# Altium schematic symbol library TRACKER.SchLib: 15 symbols
Pins are listed as number, name and electrical type; pins without a type are passive.

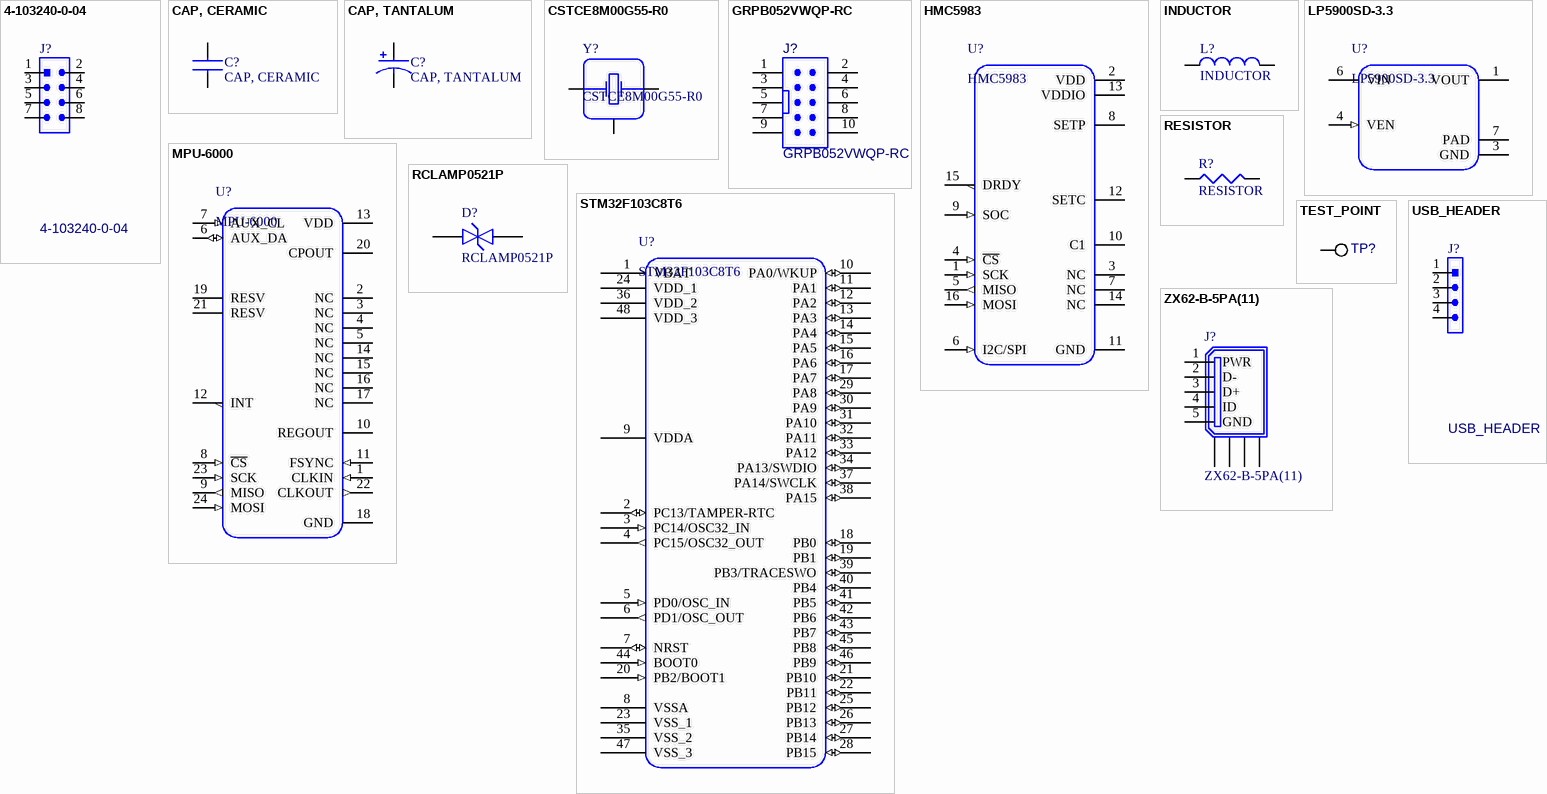
[diagram p0: symbols 4-103240-0-04 to ZX62-B-5PA(11)]

## 4-103240-0-04
designator J?
CONNECTOR, HEADER, 2X4, 0.1" PITCH; Manufacturer: TE CONNECTIVITY; Part Number: 4-103240-0-04; Pitch: 0.1"
footprint 4-103240-0-04 (Footprint not found)
pins: 1, 2, 3, 4, 5, 6, 7, 8

## CAP, CERAMIC
designator C?
CAPACITOR, CERAMIC; Manufacturer: *; Part Number: *; Package: *; Tolerance: *; Dielectric: *; Voltage: *
pins: 1, 2

## CAP, TANTALUM
designator C?
CAPACITOR, TANTALUM; Manufacturer: *; Part Number: *; Package: *; Tolerance: *; Dielectric: *; Voltage: *
pins: 1, 2

## CSTCE8M00G55-R0
designator Y?
CERAMIC RESONATOR, 8MHz, +/-0.2%, 33pF, SMD; Manufacturer: MURATA ELECTRONICS; Part Number: CSTCE8M00G55-R0; Pinout Verified: *
footprint CSTCE (Footprint not found)
pins: 1, 2 GND (power), 3

## GRPB052VWQP-RC
designator J?
CONNECTOR, 10 POS, ARM CORTEX SWD HEADER; Manufacturer: SULLINS CONNECTOR; Part Number: GRPB052VWQP-RC
footprint GRPB052VWQP-RC (Footprint not found)
pins: 1, 2, 3, 4, 5, 6, 7, 8, 9, 10

## HMC5983
designator U?
IC, MEMS 3 AXIS MAGNETOMETER; Manufacturer: HONEYWELL; Part Number: HMC5983-TR; Verified Pinout: *; Updated: *
footprint LPCC-16 (Footprint not found)
pins: 1 SCK (in), 2 VDD (power), 3 NC, 4 ~{CS} (in), 5 MISO (out), 6 I2C/SPI (in), 7 NC, 8 SETP, 9 SOC (in), 10 C1, 11 GND (power), 12 SETC, 13 VDDIO (power), 14 NC, 15 DRDY, 16 MOSI (in)

## INDUCTOR
designator L?
Manufacturer: *; Part Number: *; Tolerance: *; Package: *
pins: 1, 2

## LP5900SD-3.3
designator U?
IC, LINEAR REGULATOR, 3.3V, 150MA, ULTRA LOW NOISE; Manufacturer: NATIONAL SEMICONDUCTOR; Part Number: LP5900SD-3.3/NOPB; Pinout verified: *
footprint LLP-6
pins: 1 VOUT (power), 3 GND (power), 4 VEN (in), 6 VIN (power), 7 PAD (power)

## MPU-6000
designator U?
IC, MEMS 3 AXIS GYROSCOPE AND 3 AXIS ACCELEROMETER; Manufacturer: INVENSENSE; Part Number: MPU-6000; Verified Pinout: *; Updated: *
footprint QFN-24
pins: 1 CLKIN (in), 2 NC, 3 NC, 4 NC, 5 NC, 6 AUX_DA (io), 7 AUX_CL (in), 8 ~{CS} (in), 9 MISO (out), 10 REGOUT (power), 11 FSYNC (in), 12 INT, 13 VDD (power), 14 NC, 15 NC, 16 NC, 17 NC, 18 GND (power), 19 RESV, 20 CPOUT, 21 RESV, 22 CLKOUT (out), 23 SCK (in), 24 MOSI (in)

## RCLAMP0521P
designator D?
DIODE, ESD SUPPRESSOR, SINGLE LINE, ULTRA LOW CAPACITANCE; Manufacturer: SEMTECH; Part Number: RCLAMP0521P
footprint RCLAMP0521P (Footprint not found)
pins: 1, 2

## RESISTOR
designator R?
Manufacturer: *; Part Number: *; Tolerance: *; Package: *
pins: 1, 2

## STM32F103C8T6
designator U?
IC, STM32 MICROCONTROLLER, ARM CORTEX M3; Manufacturer: ST MICROELECTRONICS; Part Number: STM32F103C8T6; Verified Pinout: *
footprint LQFP48 (Footprint not found)
pins: 1 VBAT (power), 2 PC13/TAMPER-RTC (io), 3 PC14/OSC32_IN (in), 4 PC15/OSC32_OUT (out), 5 PD0/OSC_IN (in), 6 PD1/OSC_OUT (out), 7 NRST (io), 8 VSSA (power), 9 VDDA (power), 10 PA0/WKUP (io), 11 PA1 (io), 12 PA2 (io), 13 PA3 (io), 14 PA4 (io), 15 PA5 (io), 16 PA6 (io), 17 PA7 (io), 18 PB0 (io), 19 PB1 (io), 20 PB2/BOOT1 (in), 21 PB10 (io), 22 PB11 (io), 23 VSS_1 (power), 24 VDD_1 (power), 25 PB12 (io), 26 PB13 (io), 27 PB14 (io), 28 PB15 (io), 29 PA8 (io), 30 PA9 (io), 31 PA10 (io), 32 PA11 (io), 33 PA12 (io), 34 PA13/SWDIO (io), 35 VSS_2 (power), 36 VDD_2 (power), 37 PA14/SWCLK (io), 38 PA15 (io), 39 PB3/TRACESWO (io), 40 PB4 (io), 41 PB5 (io), 42 PB6 (io), 43 PB7 (io), 44 BOOT0 (in), 45 PB8 (io), 46 PB9 (io), 47 VSS_3 (power), 48 VDD_3 (power)

## TEST_POINT
designator TP?, comment TEST POINT  (value not drawn)
Manufacturer: *; Part Number: *
footprint POGO PIN
footprint TEST_POINT_PAD (Footprint not found)
pins: 1

## USB_HEADER
designator J?
CONNECTOR, HEADER, 4 POS, SMD; Manufacturer: TBD; Part Number: TBD
footprint USB_HEADER (Footprint not found)
pins: 1, 2, 3, 4

## ZX62-B-5PA(11)
designator J?
CONNECTOR, USB MICRO B, R/A, SMD; Manufacturer: HIROSE; Part Number: ZX62-B-5PA(11)
footprint ZX62-B-5PA(11) (Footprint not found)
pins: 1 PWR (power), 2 D- (hiz), 3 D+ (hiz), 4 ID, 5 GND (power), 6 SHIELD, 7 SHIELD, 8 SHIELD, 9 SHIELD